# EAGLE library part MSP430F5529_PN_80 (library MSP430F5529_80)
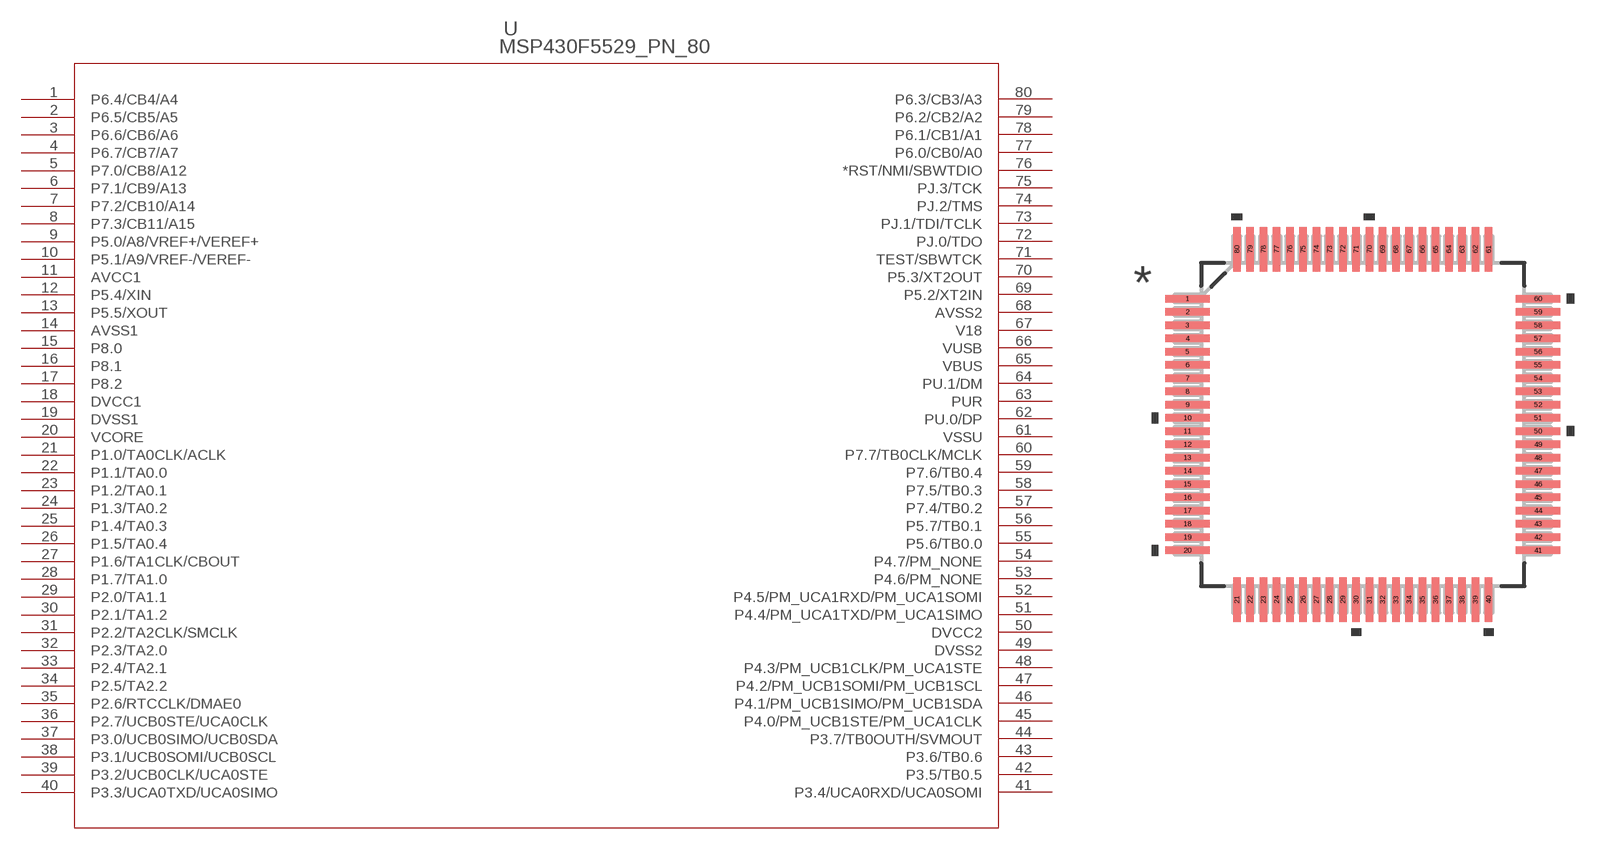
[diagram p0: symbol with the pads of PN80; footprint PN80]

Designator prefix U

## MSP430F5529_PN_80 (DATASHEETURL: httpwww.ti.comlitgpnMSP430F5529; FAMILY_NAME: 5 Series; GENERIC_PART_NUMBER: MSP430F5529; INDUSTRY_STD_PKG_TYPE: LQFP; MANUFACTURER: Texas Instruments; MANUFACTURER_PART_NUMBER: msp430f5529_pn_80; PACKAGE_DESIGNATOR: PN; PIN_COUNT: 80; VENDOR: Texas Instruments)  [PN80]
1  P6.4/CB4/A4
2  P6.5/CB5/A5
3  P6.6/CB6/A6
4  P6.7/CB7/A7
5  P7.0/CB8/A12
6  P7.1/CB9/A13
7  P7.2/CB10/A14
8  P7.3/CB11/A15
9  P5.0/A8/VREF+/VEREF+
10  P5.1/A9/VREF-/VEREF-
11  AVCC1  pwr
12  P5.4/XIN
13  P5.5/XOUT
14  AVSS1  pwr
15  P8.0
16  P8.1
17  P8.2
18  DVCC1  pwr
19  DVSS1  pwr
20  VCORE  pwr
21  P1.0/TA0CLK/ACLK
22  P1.1/TA0.0
23  P1.2/TA0.1
24  P1.3/TA0.2
25  P1.4/TA0.3
26  P1.5/TA0.4
27  P1.6/TA1CLK/CBOUT
28  P1.7/TA1.0
29  P2.0/TA1.1
30  P2.1/TA1.2
31  P2.2/TA2CLK/SMCLK
32  P2.3/TA2.0
33  P2.4/TA2.1
34  P2.5/TA2.2
35  P2.6/RTCCLK/DMAE0
36  P2.7/UCB0STE/UCA0CLK
37  P3.0/UCB0SIMO/UCB0SDA
38  P3.1/UCB0SOMI/UCB0SCL
39  P3.2/UCB0CLK/UCA0STE
40  P3.3/UCA0TXD/UCA0SIMO
41  P3.4/UCA0RXD/UCA0SOMI
42  P3.5/TB0.5
43  P3.6/TB0.6
44  P3.7/TB0OUTH/SVMOUT
45  P4.0/PM_UCB1STE/PM_UCA1CLK
46  P4.1/PM_UCB1SIMO/PM_UCB1SDA
47  P4.2/PM_UCB1SOMI/PM_UCB1SCL
48  P4.3/PM_UCB1CLK/PM_UCA1STE
49  DVSS2  pwr
50  DVCC2  pwr
51  P4.4/PM_UCA1TXD/PM_UCA1SIMO
52  P4.5/PM_UCA1RXD/PM_UCA1SOMI
53  P4.6/PM_NONE
54  P4.7/PM_NONE
55  P5.6/TB0.0
56  P5.7/TB0.1
57  P7.4/TB0.2
58  P7.5/TB0.3
59  P7.6/TB0.4
60  P7.7/TB0CLK/MCLK
61  VSSU  pwr
62  PU.0/DP
63  PUR
64  PU.1/DM
65  VBUS  pwr
66  VUSB  pwr
67  V18  pwr
68  AVSS2  pwr
69  P5.2/XT2IN
70  P5.3/XT2OUT
71  TEST/SBWTCK
72  PJ.0/TDO
73  PJ.1/TDI/TCLK
74  PJ.2/TMS
75  PJ.3/TCK
76  *RST/NMI/SBWTDIO
77  P6.0/CB0/A0
78  P6.1/CB1/A1
79  P6.2/CB2/A2
80  P6.3/CB3/A3

## Footprint PN80 (pad centres in mm)
smd 1.676 x 0.279: 1 -6.617,4.75; 2 -6.617,4.25; 3 -6.617,3.75; 4 -6.617,3.25; 5 -6.617,2.75; 6 -6.617,2.25; 7 -6.617,1.75; 8 -6.617,1.25; 9 -6.617,0.75; 10 -6.617,0.25; 11 -6.617,-0.25; 12 -6.617,-0.75; 13 -6.617,-1.25; 14 -6.617,-1.75; 15 -6.617,-2.25; 16 -6.617,-2.75; 17 -6.617,-3.25; 18 -6.617,-3.75; 19 -6.617,-4.25; 20 -6.617,-4.75; 41 6.617,-4.75; 42 6.617,-4.25; 43 6.617,-3.75; 44 6.617,-3.25; 45 6.617,-2.75; 46 6.617,-2.25; 47 6.617,-1.75; 48 6.617,-1.25; 49 6.617,-0.75; 50 6.617,-0.25; 51 6.617,0.25; 52 6.617,0.75; 53 6.617,1.25; 54 6.617,1.75; 55 6.617,2.25; 56 6.617,2.75; 57 6.617,3.25; 58 6.617,3.75; 59 6.617,4.25; 60 6.617,4.75
smd 0.279 x 1.676: 21 -4.75,-6.617; 22 -4.25,-6.617; 23 -3.75,-6.617; 24 -3.25,-6.617; 25 -2.75,-6.617; 26 -2.25,-6.617; 27 -1.75,-6.617; 28 -1.25,-6.617; 29 -0.75,-6.617; 30 -0.25,-6.617; 31 0.25,-6.617; 32 0.75,-6.617; 33 1.25,-6.617; 34 1.75,-6.617; 35 2.25,-6.617; 36 2.75,-6.617; 37 3.25,-6.617; 38 3.75,-6.617; 39 4.25,-6.617; 40 4.75,-6.617; 61 4.75,6.617; 62 4.25,6.617; 63 3.75,6.617; 64 3.25,6.617; 65 2.75,6.617; 66 2.25,6.617; 67 1.75,6.617; 68 1.25,6.617; 69 0.75,6.617; 70 0.25,6.617; 71 -0.25,6.617; 72 -0.75,6.617; 73 -1.25,6.617; 74 -1.75,6.617; 75 -2.25,6.617; 76 -2.75,6.617; 77 -3.25,6.617; 78 -3.75,6.617; 79 -4.25,6.617; 80 -4.75,6.617